# EAGLE library part MOTADORA_SHIBA (library motadora2011)
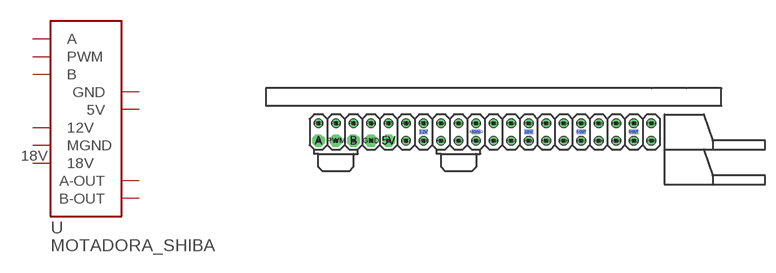
[diagram p4: symbol with the pads of MOTADORA_SHIBA; footprint MOTADORA_SHIBA]

Designator prefix -

## MOTADORA_SHIBA  [MOTADORA_SHIBA]
5V  5V  pwr
12V  12V  pwr
18V  18V  pwr
A  A  in
A-OUT  A-OUT  out
B  B  in
B-OUT  B-OUT  out
GND  GND  pwr
MGND  MGND  pwr
PWM  PWM  in

## Footprint MOTADORA_SHIBA (pad centres in mm)
drill 1.001 pad 1.778 octagon: 5V -12.7,-1.27; A -22.86,-1.27; B -17.78,-1.27; GND -15.24,-1.27; PWM -20.32,-1.27
smd 1.27 x 0.635 bottom: 12V -7.62,0; 18V 7.62,0; A-OUT 15.24,0; B-OUT 22.86,0; MGND 0,0
drill 0.8: P$1 -22.86,1.27; P$2 -20.32,1.27; P$3 -17.78,1.27; P$4 -15.24,1.27; P$5 -12.7,1.27; P$6 -10.16,1.27; P$7 -10.16,-1.27; P$8 -7.62,-1.27; P$9 -7.62,1.27; P$10 -5.08,1.27; P$11 -5.08,-1.27; P$12 -2.54,-1.27; P$13 -2.54,1.27; P$14 0,1.27; P$15 0,-1.27; P$16 2.54,-1.27; P$17 2.54,1.27; P$18 5.08,1.27; P$19 7.62,1.27; P$20 7.62,-1.27; P$21 5.08,-1.27; P$22 10.16,-1.27; P$23 10.16,1.27; P$24 12.7,1.27; P$25 12.7,-1.27; P$26 15.24,1.27; P$27 15.24,-1.27; P$28 17.78,-1.27; P$29 17.78,1.27; P$30 20.32,1.27; P$31 20.32,-1.27; P$32 22.86,-1.27; P$33 22.86,1.27; P$34 25.4,1.27; P$35 25.4,-1.27